# EAGLE library part LED5050-RGB-SMD (library PonLib)
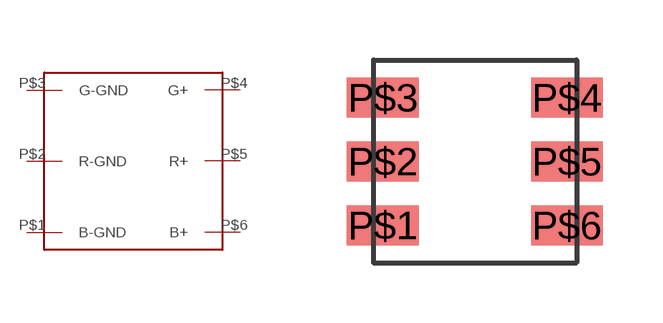
[diagram p19: symbol with the pads of LED5050-RGB-SMD; footprint LED5050-RGB-SMD]

Designator prefix -

## LED5050-RGB-SMD  [LED5050-RGB-SMD]
P$1  B-GND
P$2  R-GND
P$3  G-GND
P$4  G+
P$5  R+
P$6  B+

## Footprint LED5050-RGB-SMD (pad centres in mm)
smd 1.8 x 1: P$1 -2.3,-1.6; P$2 -2.3,0; P$3 -2.3,1.6; P$4 2.3,1.6; P$5 2.3,0; P$6 2.3,-1.6